# EAGLE library part G2755--DA38 (library TI_MSP430_v16)
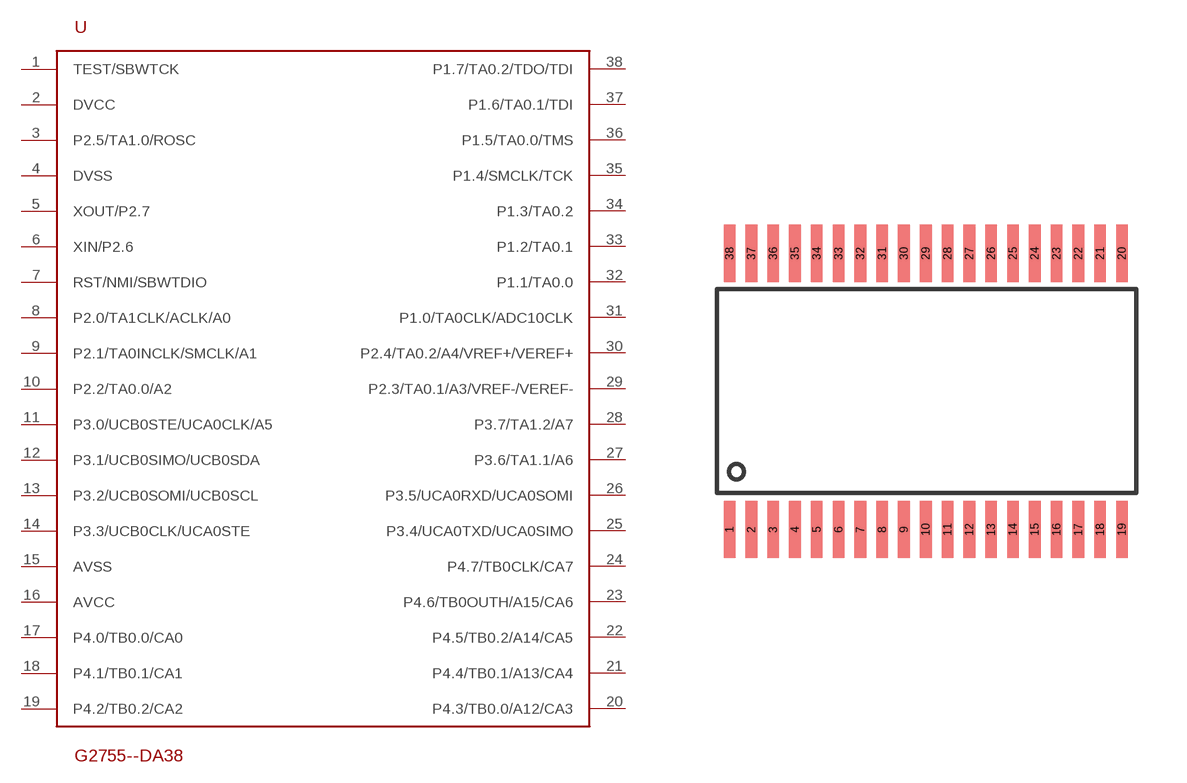
[diagram p146: symbol with the pads of DA38; footprint DA38]

Designator prefix -

## G2755--DA38  [DA38]
1  TEST/SBWTCK
2  DVCC
3  P2.5/TA1.0/ROSC
4  DVSS
5  XOUT/P2.7
6  XIN/P2.6
7  RST/NMI/SBWTDIO
8  P2.0/TA1CLK/ACLK/A0
9  P2.1/TA0INCLK/SMCLK/A1
10  P2.2/TA0.0/A2
11  P3.0/UCB0STE/UCA0CLK/A5
12  P3.1/UCB0SIMO/UCB0SDA
13  P3.2/UCB0SOMI/UCB0SCL
14  P3.3/UCB0CLK/UCA0STE
15  AVSS
16  AVCC
17  P4.0/TB0.0/CA0
18  P4.1/TB0.1/CA1
19  P4.2/TB0.2/CA2
20  P4.3/TB0.0/A12/CA3
21  P4.4/TB0.1/A13/CA4
22  P4.5/TB0.2/A14/CA5
23  P4.6/TB0OUTH/A15/CA6
24  P4.7/TB0CLK/CA7
25  P3.4/UCA0TXD/UCA0SIMO
26  P3.5/UCA0RXD/UCA0SOMI
27  P3.6/TA1.1/A6
28  P3.7/TA1.2/A7
29  P2.3/TA0.1/A3/VREF-/VEREF-
30  P2.4/TA0.2/A4/VREF+/VEREF+
31  P1.0/TA0CLK/ADC10CLK
32  P1.1/TA0.0
33  P1.2/TA0.1
34  P1.3/TA0.2
35  P1.4/SMCLK/TCK
36  P1.5/TA0.0/TMS
37  P1.6/TA0.1/TDI
38  P1.7/TA0.2/TDO/TDI

## Footprint DA38 (pad centres in mm)
*** TI: DA *** JEDEC: R-PDSO-G28 *** 38 PINS ***
smd 0.35 x 1.705: 1 -5.85,-4.12; 2 -5.2,-4.12; 3 -4.55,-4.12; 4 -3.9,-4.12; 5 -3.25,-4.12; 6 -2.6,-4.12; 7 -1.95,-4.12; 8 -1.3,-4.12; 9 -0.65,-4.12; 10 0,-4.12; 11 0.65,-4.12; 12 1.3,-4.12; 13 1.95,-4.12; 14 2.6,-4.12; 15 3.25,-4.12; 16 3.9,-4.12; 17 4.55,-4.12; 18 5.2,-4.12; 19 5.85,-4.12; 20 5.85,4.12; 21 5.2,4.12; 22 4.55,4.12; 23 3.9,4.12; 24 3.25,4.12; 25 2.6,4.12; 26 1.95,4.12; 27 1.3,4.12; 28 0.65,4.12; 29 0,4.12; 30 -0.65,4.12; 31 -1.3,4.12; 32 -1.95,4.12; 33 -2.6,4.12; 34 -3.25,4.12; 35 -3.9,4.12; 36 -4.55,4.12; 37 -5.2,4.12; 38 -5.85,4.12